# Altium footprint library LTR-303ALS-01.PcbLib: 1 footprints
Each footprint in its own frame and in the unit in brackets; x right, y up, seen from the top. Pads: shape width x height; smd on the part's side, far side on the other; paste and mask are expansions set on the pad; w line width, h text height; cw(c..) or ccw(c..) is an arc to the next point about the centre after c.
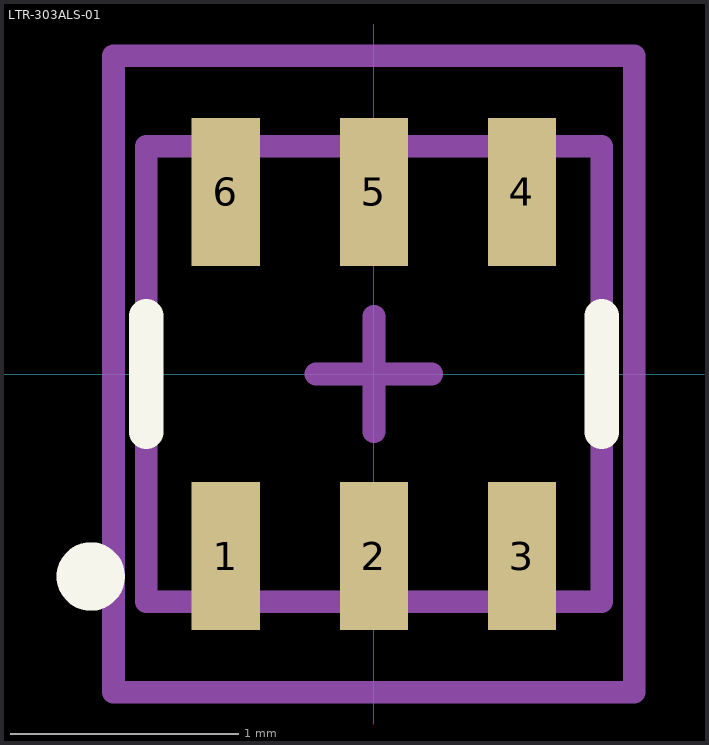
[diagram p0: the footprint, top view; thin cyan lines are the x and y axes]

## LTR-303ALS-01 [mm]
pads (6):
  rect 0.3x0.65 smd: 1(-0.65,-0.8) 2(0,-0.8) 3(0.65,-0.8) 4(0.65,0.8) 5(0,0.8) 6(-0.65,0.8)
Top Overlay:
  circle w0.15: c-1.243,-0.889 r0.075
  lines w0.15: -1,-0.254 -1,0.254 ; 1,-0.254 1,0.254
Mechanical 13:
  lines w0.1: -1,-1 1,-1 1,1 -1,1 -1,-1
Mechanical 15:
  lines w0.1: -0.254,0 0.254,0 ; 0,-0.254 0,0.254 ; -1.143,-1.397 -1.143,1.397 1.143,1.397 1.143,-1.397 -1.143,-1.397
Mechanical 29:
  lines w0.1: -1,-1 -1,1 1,1 1,-1 -1,-1
  text ".Designator" at -0.762,-0.508 h1.52
3D body: height 0.7, standoff -0.03, extent -1.01,-1 1.01,1